# Altium integrated library TI Interface Line Transceiver.IntLib: 631 symbols (part 6 of 17)
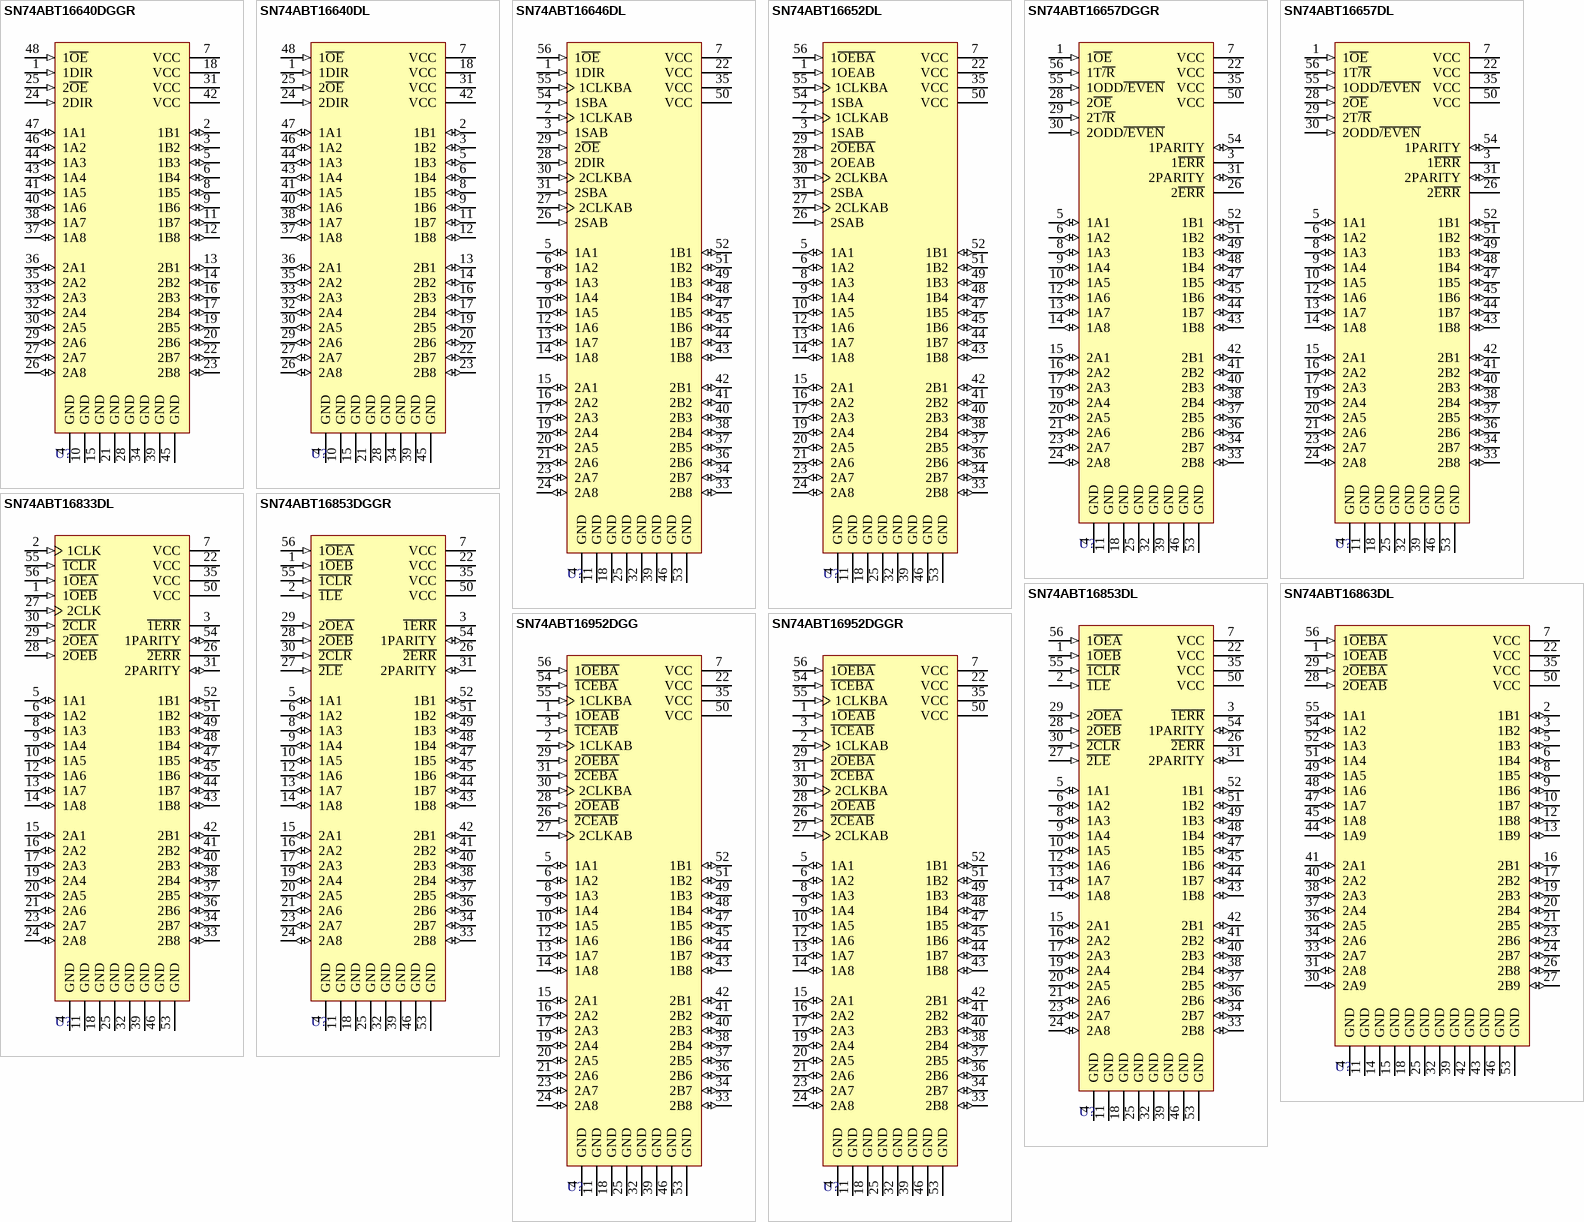
[diagram p44: symbols SN74ABT16640DGGR to SN74ABT16952DGGR]

## SN74ABT16652DL
designator U?
16-Bit Bus Transceiver and Register with 3-State Outputs; Published: 8-Jun-2000; LatestRevisionDate: 04-Mar-2005; LatestRevisionNote: Stylized 3D Model Added.; DatasheetVersion: Jan-1997; PackageVersion: Dec-2001; PackageReference: DL056; Publisher: Altium Limited; PackageDescription: SSOP; 56 Leads; Body Width 7.5 mm; Pitch 0.635 mm; Code_JEDEC: MO-118-AB; Code_IPC: SSO56; ComponentLink1Description: Manufacturer Link; ComponentLink1URL: http://www.ti.com/; ComponentLink2Description: Datasheet; ComponentLink2URL: http://www-s.ti.com/sc/ds/sn74abt16652.pdf
footprint DL056 (SSOP; 56 Leads; Body Width 7.5 mm; Pitch 0.635 mm)
3D model DL056 (SSOP; 56 Leads; Body Width 7.5 mm; Pitch 0.635 mm)
signal-integrity model SN74ABT16652DL
pins: 1 1OEAB (in), 2 1CLKAB (in), 3 1SAB (in), 4 GND (power), 5 1A1 (io), 6 1A2 (io), 7 VCC (power), 8 1A3 (io), 9 1A4 (io), 10 1A5 (io), 11 GND (power), 12 1A6 (io), 13 1A7 (io), 14 1A8 (io), 15 2A1 (io), 16 2A2 (io), 17 2A3 (io), 18 GND (power), 19 2A4 (io), 20 2A5 (io), 21 2A6 (io), 22 VCC (power), 23 2A7 (io), 24 2A8 (io), 25 GND (power), 26 2SAB (in), 27 2CLKAB (in), 28 2OEAB (in), 29 2~{OEBA} (in), 30 2CLKBA (in), 31 2SBA (in), 32 GND (power), 33 2B8 (io), 34 2B7 (io), 35 VCC (power), 36 2B6 (io), 37 2B5 (io), 38 2B4 (io), 39 GND (power), 40 2B3 (io), 41 2B2 (io), 42 2B1 (io), 43 1B8 (io), 44 1B7 (io), 45 1B6 (io), 46 GND (power), 47 1B5 (io), 48 1B4 (io), 49 1B3 (io), 50 VCC (power), 51 1B2 (io), 52 1B1 (io), 53 GND (power), 54 1SBA (in), 55 1CLKBA (in), 56 1~{OEBA} (in)

## SN74ABT16657DGGR
designator U?
16-Bit Transceiver with Parity Generators/Checkers and 3-State Outputs; Note: Pins 2 and 27 are not connected; Published: 8-Jun-2000; LatestRevisionDate: 04-Mar-2005; LatestRevisionNote: Stylized 3D Model Added.; DatasheetVersion: Jan-1997; PackageVersion: Jan-1998; PackageReference: DGG056; Publisher: Altium Limited; PackageDescription: Shrink Small Outline; 56 Leads; Body Width 6.1 mm; Pitch 0.5 mm; ComponentLink1Description: Manufacturer Link; ComponentLink1URL: http://www.ti.com/; ComponentLink2Description: Datasheet; ComponentLink2URL: http://www-s.ti.com/sc/ds/sn74abt16657.pdf
footprint DGG056 (Shrink Small Outline; 56 Leads; Body Width 6.1 mm; Pitch 0.5 mm)
3D model DGG056 (Shrink Small Outline; 56 Leads; Body Width 6.1 mm; Pitch 0.5 mm)
signal-integrity model SN74ABT16657DGGR
pins: 1 1~{OE} (in), 3 1~{ERR} (hiz), 4 GND (power), 5 1A1 (io), 6 1A2 (io), 7 VCC (power), 8 1A3 (io), 9 1A4 (io), 10 1A5 (io), 11 GND (power), 12 1A6 (io), 13 1A7 (io), 14 1A8 (io), 15 2A1 (io), 16 2A2 (io), 17 2A3 (io), 18 GND (power), 19 2A4 (io), 20 2A5 (io), 21 2A6 (io), 22 VCC (power), 23 2A7 (io), 24 2A8 (io), 25 GND (power), 26 2~{ERR} (hiz), 28 2~{OE} (in), 29 2T~{/R} (in), 30 2ODD~{/EVEN} (in), 31 2PARITY (io), 32 GND (power), 33 2B8 (io), 34 2B7 (io), 35 VCC (power), 36 2B6 (io), 37 2B5 (io), 38 2B4 (io), 39 GND (power), 40 2B3 (io), 41 2B2 (io), 42 2B1 (io), 43 1B8 (io), 44 1B7 (io), 45 1B6 (io), 46 GND (power), 47 1B5 (io), 48 1B4 (io), 49 1B3 (io), 50 VCC (power), 51 1B2 (io), 52 1B1 (io), 53 GND (power), 54 1PARITY (io), 55 1ODD~{/EVEN} (in), 56 1T~{/R} (in)

## SN74ABT16657DL
designator U?
16-Bit Transceiver with Parity Generators/Checkers and 3-State Outputs; Note: Pins 2 and 27 are not connected; Published: 8-Jun-2000; LatestRevisionDate: 04-Mar-2005; LatestRevisionNote: Stylized 3D Model Added.; DatasheetVersion: Jan-1997; PackageVersion: Dec-2001; PackageReference: DL056; Publisher: Altium Limited; PackageDescription: SSOP; 56 Leads; Body Width 7.5 mm; Pitch 0.635 mm; Code_JEDEC: MO-118-AB; Code_IPC: SSO56; ComponentLink1Description: Manufacturer Link; ComponentLink1URL: http://www.ti.com/; ComponentLink2Description: Datasheet; ComponentLink2URL: http://www-s.ti.com/sc/ds/sn74abt16657.pdf
footprint DL056 (SSOP; 56 Leads; Body Width 7.5 mm; Pitch 0.635 mm)
3D model DL056 (SSOP; 56 Leads; Body Width 7.5 mm; Pitch 0.635 mm)
signal-integrity model SN74ABT16657DL
pins: 1 1~{OE} (in), 3 1~{ERR} (hiz), 4 GND (power), 5 1A1 (io), 6 1A2 (io), 7 VCC (power), 8 1A3 (io), 9 1A4 (io), 10 1A5 (io), 11 GND (power), 12 1A6 (io), 13 1A7 (io), 14 1A8 (io), 15 2A1 (io), 16 2A2 (io), 17 2A3 (io), 18 GND (power), 19 2A4 (io), 20 2A5 (io), 21 2A6 (io), 22 VCC (power), 23 2A7 (io), 24 2A8 (io), 25 GND (power), 26 2~{ERR} (hiz), 28 2~{OE} (in), 29 2T~{/R} (in), 30 2ODD~{/EVEN} (in), 31 2PARITY (io), 32 GND (power), 33 2B8 (io), 34 2B7 (io), 35 VCC (power), 36 2B6 (io), 37 2B5 (io), 38 2B4 (io), 39 GND (power), 40 2B3 (io), 41 2B2 (io), 42 2B1 (io), 43 1B8 (io), 44 1B7 (io), 45 1B6 (io), 46 GND (power), 47 1B5 (io), 48 1B4 (io), 49 1B3 (io), 50 VCC (power), 51 1B2 (io), 52 1B1 (io), 53 GND (power), 54 1PARITY (io), 55 1ODD~{/EVEN} (in), 56 1T~{/R} (in)

## SN74ABT16833DL
designator U?
Dual 8-Bit to 9-Bit Parity Bus Transceivers; Published: 8-Jun-2000; LatestRevisionDate: 04-Mar-2005; LatestRevisionNote: Stylized 3D Model Added.; DatasheetVersion: Jan-1997; PackageVersion: Dec-2001; PackageReference: DL056; Publisher: Altium Limited; PackageDescription: SSOP; 56 Leads; Body Width 7.5 mm; Pitch 0.635 mm; Code_JEDEC: MO-118-AB; Code_IPC: SSO56; ComponentLink1Description: Manufacturer Link; ComponentLink1URL: http://www.ti.com/; ComponentLink2Description: Datasheet; ComponentLink2URL: http://www-s.ti.com/sc/ds/sn74abt16833.pdf
footprint DL056 (SSOP; 56 Leads; Body Width 7.5 mm; Pitch 0.635 mm)
3D model DL056 (SSOP; 56 Leads; Body Width 7.5 mm; Pitch 0.635 mm)
signal-integrity model SN74ABT16833DL
pins: 1 1~{OEB} (in), 2 1CLK (in), 3 ~{1ERR} (oc), 4 GND (power), 5 1A1 (io), 6 1A2 (io), 7 VCC (power), 8 1A3 (io), 9 1A4 (io), 10 1A5 (io), 11 GND (power), 12 1A6 (io), 13 1A7 (io), 14 1A8 (io), 15 2A1 (io), 16 2A2 (io), 17 2A3 (io), 18 GND (power), 19 2A4 (io), 20 2A5 (io), 21 2A6 (io), 22 VCC (power), 23 2A7 (io), 24 2A8 (io), 25 GND (power), 26 ~{2ERR} (oc), 27 2CLK (in), 28 2~{OEB} (in), 29 2~{OEA} (in), 30 ~{2CLR} (in), 31 2PARITY (io), 32 GND (power), 33 2B8 (io), 34 2B7 (io), 35 VCC (power), 36 2B6 (io), 37 2B5 (io), 38 2B4 (io), 39 GND (power), 40 2B3 (io), 41 2B2 (io), 42 2B1 (io), 43 1B8 (io), 44 1B7 (io), 45 1B6 (io), 46 GND (power), 47 1B5 (io), 48 1B4 (io), 49 1B3 (io), 50 VCC (power), 51 1B2 (io), 52 1B1 (io), 53 GND (power), 54 1PARITY (io), 55 ~{1CLR} (in), 56 1~{OEA} (in)

## SN74ABT16853DGGR
designator U?
Dual 8-Bit to 9-Bit Parity Bus Transceivers; Published: 8-Jun-2000; LatestRevisionDate: 04-Mar-2005; LatestRevisionNote: Stylized 3D Model Added.; DatasheetVersion: Jan-1997; PackageVersion: Jan-1998; PackageReference: DGG056; Publisher: Altium Limited; PackageDescription: Shrink Small Outline; 56 Leads; Body Width 6.1 mm; Pitch 0.5 mm; ComponentLink1Description: Manufacturer Link; ComponentLink1URL: http://www.ti.com/; ComponentLink2Description: Datasheet; ComponentLink2URL: http://www-s.ti.com/sc/ds/sn74abt16853.pdf
footprint DGG056 (Shrink Small Outline; 56 Leads; Body Width 6.1 mm; Pitch 0.5 mm)
3D model DGG056 (Shrink Small Outline; 56 Leads; Body Width 6.1 mm; Pitch 0.5 mm)
signal-integrity model SN74ABT16853DGGR
pins: 1 1~{OEB} (in), 2 ~{1LE} (in), 3 ~{1ERR} (oc), 4 GND (power), 5 1A1 (io), 6 1A2 (io), 7 VCC (power), 8 1A3 (io), 9 1A4 (io), 10 1A5 (io), 11 GND (power), 12 1A6 (io), 13 1A7 (io), 14 1A8 (io), 15 2A1 (io), 16 2A2 (io), 17 2A3 (io), 18 GND (power), 19 2A4 (io), 20 2A5 (io), 21 2A6 (io), 22 VCC (power), 23 2A7 (io), 24 2A8 (io), 25 GND (power), 26 ~{2ERR} (oc), 27 ~{2LE} (in), 28 2~{OEB} (in), 29 2~{OEA} (in), 30 ~{2CLR} (in), 31 2PARITY (io), 32 GND (power), 33 2B8 (io), 34 2B7 (io), 35 VCC (power), 36 2B6 (io), 37 2B5 (io), 38 2B4 (io), 39 GND (power), 40 2B3 (io), 41 2B2 (io), 42 2B1 (io), 43 1B8 (io), 44 1B7 (io), 45 1B6 (io), 46 GND (power), 47 1B5 (io), 48 1B4 (io), 49 1B3 (io), 50 VCC (power), 51 1B2 (io), 52 1B1 (io), 53 GND (power), 54 1PARITY (io), 55 ~{1CLR} (in), 56 1~{OEA} (in)

## SN74ABT16853DL
designator U?
Dual 8-Bit to 9-Bit Parity Bus Transceivers; Published: 8-Jun-2000; LatestRevisionDate: 04-Mar-2005; LatestRevisionNote: Stylized 3D Model Added.; DatasheetVersion: Jan-1997; PackageVersion: Dec-2001; PackageReference: DL056; Publisher: Altium Limited; PackageDescription: SSOP; 56 Leads; Body Width 7.5 mm; Pitch 0.635 mm; Code_JEDEC: MO-118-AB; Code_IPC: SSO56; ComponentLink1Description: Manufacturer Link; ComponentLink1URL: http://www.ti.com/; ComponentLink2Description: Datasheet; ComponentLink2URL: http://www-s.ti.com/sc/ds/sn74abt16853.pdf
footprint DL056 (SSOP; 56 Leads; Body Width 7.5 mm; Pitch 0.635 mm)
3D model DL056 (SSOP; 56 Leads; Body Width 7.5 mm; Pitch 0.635 mm)
signal-integrity model SN74ABT16853DL
pins: 1 1~{OEB} (in), 2 ~{1LE} (in), 3 ~{1ERR} (oc), 4 GND (power), 5 1A1 (io), 6 1A2 (io), 7 VCC (power), 8 1A3 (io), 9 1A4 (io), 10 1A5 (io), 11 GND (power), 12 1A6 (io), 13 1A7 (io), 14 1A8 (io), 15 2A1 (io), 16 2A2 (io), 17 2A3 (io), 18 GND (power), 19 2A4 (io), 20 2A5 (io), 21 2A6 (io), 22 VCC (power), 23 2A7 (io), 24 2A8 (io), 25 GND (power), 26 ~{2ERR} (oc), 27 ~{2LE} (in), 28 2~{OEB} (in), 29 2~{OEA} (in), 30 ~{2CLR} (in), 31 2PARITY (io), 32 GND (power), 33 2B8 (io), 34 2B7 (io), 35 VCC (power), 36 2B6 (io), 37 2B5 (io), 38 2B4 (io), 39 GND (power), 40 2B3 (io), 41 2B2 (io), 42 2B1 (io), 43 1B8 (io), 44 1B7 (io), 45 1B6 (io), 46 GND (power), 47 1B5 (io), 48 1B4 (io), 49 1B3 (io), 50 VCC (power), 51 1B2 (io), 52 1B1 (io), 53 GND (power), 54 1PARITY (io), 55 ~{1CLR} (in), 56 1~{OEA} (in)

## SN74ABT16863DL
designator U?
18-Bit Bus Transceiver with 3-State Outputs; Published: 8-Jun-2000; LatestRevisionDate: 04-Mar-2005; LatestRevisionNote: Stylized 3D Model Added.; DatasheetVersion: May-1997; PackageVersion: Dec-2001; PackageReference: DL056; Publisher: Altium Limited; PackageDescription: SSOP; 56 Leads; Body Width 7.5 mm; Pitch 0.635 mm; Code_JEDEC: MO-118-AB; Code_IPC: SSO56; ComponentLink1Description: Manufacturer Link; ComponentLink1URL: http://www.ti.com/; ComponentLink2Description: Datasheet; ComponentLink2URL: http://www-s.ti.com/sc/ds/sn74abt16863.pdf; ComponentLink3Description: URL Link1; ComponentLink3URL: http://focus.ti.com/docs/prod/folders/print/sn74abt16863.html
footprint DL056 (SSOP; 56 Leads; Body Width 7.5 mm; Pitch 0.635 mm)
3D model DL056 (SSOP; 56 Leads; Body Width 7.5 mm; Pitch 0.635 mm)
signal-integrity model SN74ABT16863DL
pins: 1 1~{OEAB} (in), 2 1B1 (io), 3 1B2 (io), 4 GND (power), 5 1B3 (io), 6 1B4 (io), 7 VCC (power), 8 1B5 (io), 9 1B6 (io), 10 1B7 (io), 11 GND (power), 12 1B8 (io), 13 1B9 (io), 14 GND (power), 15 GND (power), 16 2B1 (io), 17 2B2 (io), 18 GND (power), 19 2B3 (io), 20 2B4 (io), 21 2B5 (io), 22 VCC (power), 23 2B6 (io), 24 2B7 (io), 25 GND (power), 26 2B8 (io), 27 2B9 (io), 28 2~{OEAB} (in), 29 2~{OEBA} (in), 30 2A9 (io), 31 2A8 (io), 32 GND (power), 33 2A7 (io), 34 2A6 (io), 35 VCC (power), 36 2A5 (io), 37 2A4 (io), 38 2A3 (io), 39 GND (power), 40 2A2 (io), 41 2A1 (io), 42 GND (power), 43 GND (power), 44 1A9 (io), 45 1A8 (io), 46 GND (power), 47 1A7 (io), 48 1A6 (io), 49 1A5 (io), 50 VCC (power), 51 1A4 (io), 52 1A3 (io), 53 GND (power), 54 1A2 (io), 55 1A1 (io), 56 1~{OEBA} (in)

## SN74ABT16952DGG
designator U?
16-Bit Registered Transceiver with 3-State Outputs; Published: 8-Jun-2000; LatestRevisionDate: 04-Mar-2005; LatestRevisionNote: Stylized 3D Model Added.; DatasheetVersion: Jan-1997; PackageVersion: Jan-1998; PackageReference: DGG056; Publisher: Altium Limited; PackageDescription: Shrink Small Outline; 56 Leads; Body Width 6.1 mm; Pitch 0.5 mm; ComponentLink1Description: Manufacturer Link; ComponentLink1URL: http://www.ti.com/; ComponentLink2Description: Datasheet; ComponentLink2URL: http://www-s.ti.com/sc/ds/sn74abt16952.pdf
footprint DGG056 (Shrink Small Outline; 56 Leads; Body Width 6.1 mm; Pitch 0.5 mm)
3D model DGG056 (Shrink Small Outline; 56 Leads; Body Width 6.1 mm; Pitch 0.5 mm)
signal-integrity model SN74ABT16952DGG
pins: 1 1~{OEAB} (in), 2 1CLKAB (in), 3 ~{1CEAB} (in), 4 GND (power), 5 1A1 (io), 6 1A2 (io), 7 VCC (power), 8 1A3 (io), 9 1A4 (io), 10 1A5 (io), 11 GND (power), 12 1A6 (io), 13 1A7 (io), 14 1A8 (io), 15 2A1 (io), 16 2A2 (io), 17 2A3 (io), 18 GND (power), 19 2A4 (io), 20 2A5 (io), 21 2A6 (io), 22 VCC (power), 23 2A7 (io), 24 2A8 (io), 25 GND (power), 26 ~{2CEAB} (in), 27 2CLKAB (in), 28 2~{OEAB} (in), 29 2~{OEBA} (in), 30 2CLKBA (in), 31 ~{2CEBA} (in), 32 GND (power), 33 2B8 (io), 34 2B7 (io), 35 VCC (power), 36 2B6 (io), 37 2B5 (io), 38 2B4 (io), 39 GND (power), 40 2B3 (io), 41 2B2 (io), 42 2B1 (io), 43 1B8 (io), 44 1B7 (io), 45 1B6 (io), 46 GND (power), 47 1B5 (io), 48 1B4 (io), 49 1B3 (io), 50 VCC (power), 51 1B2 (io), 52 1B1 (io), 53 GND (power), 54 ~{1CEBA} (in), 55 1CLKBA (in), 56 1~{OEBA} (in)

## SN74ABT16952DGGR
designator U?
16-Bit Registered Transceiver with 3-State Outputs; Published: 8-Jun-2000; LatestRevisionDate: 04-Mar-2005; LatestRevisionNote: Stylized 3D Model Added.; DatasheetVersion: Jan-1997; PackageVersion: Jan-1998; PackageReference: DGG056; Publisher: Altium Limited; PackageDescription: Shrink Small Outline; 56 Leads; Body Width 6.1 mm; Pitch 0.5 mm; ComponentLink1Description: Manufacturer Link; ComponentLink1URL: http://www.ti.com/; ComponentLink2Description: Datasheet; ComponentLink2URL: http://www-s.ti.com/sc/ds/sn74abt16952.pdf
footprint DGG056 (Shrink Small Outline; 56 Leads; Body Width 6.1 mm; Pitch 0.5 mm)
3D model DGG056 (Shrink Small Outline; 56 Leads; Body Width 6.1 mm; Pitch 0.5 mm)
signal-integrity model SN74ABT16952DGGR
pins: 1 1~{OEAB} (in), 2 1CLKAB (in), 3 ~{1CEAB} (in), 4 GND (power), 5 1A1 (io), 6 1A2 (io), 7 VCC (power), 8 1A3 (io), 9 1A4 (io), 10 1A5 (io), 11 GND (power), 12 1A6 (io), 13 1A7 (io), 14 1A8 (io), 15 2A1 (io), 16 2A2 (io), 17 2A3 (io), 18 GND (power), 19 2A4 (io), 20 2A5 (io), 21 2A6 (io), 22 VCC (power), 23 2A7 (io), 24 2A8 (io), 25 GND (power), 26 ~{2CEAB} (in), 27 2CLKAB (in), 28 2~{OEAB} (in), 29 2~{OEBA} (in), 30 2CLKBA (in), 31 ~{2CEBA} (in), 32 GND (power), 33 2B8 (io), 34 2B7 (io), 35 VCC (power), 36 2B6 (io), 37 2B5 (io), 38 2B4 (io), 39 GND (power), 40 2B3 (io), 41 2B2 (io), 42 2B1 (io), 43 1B8 (io), 44 1B7 (io), 45 1B6 (io), 46 GND (power), 47 1B5 (io), 48 1B4 (io), 49 1B3 (io), 50 VCC (power), 51 1B2 (io), 52 1B1 (io), 53 GND (power), 54 ~{1CEBA} (in), 55 1CLKBA (in), 56 1~{OEBA} (in)

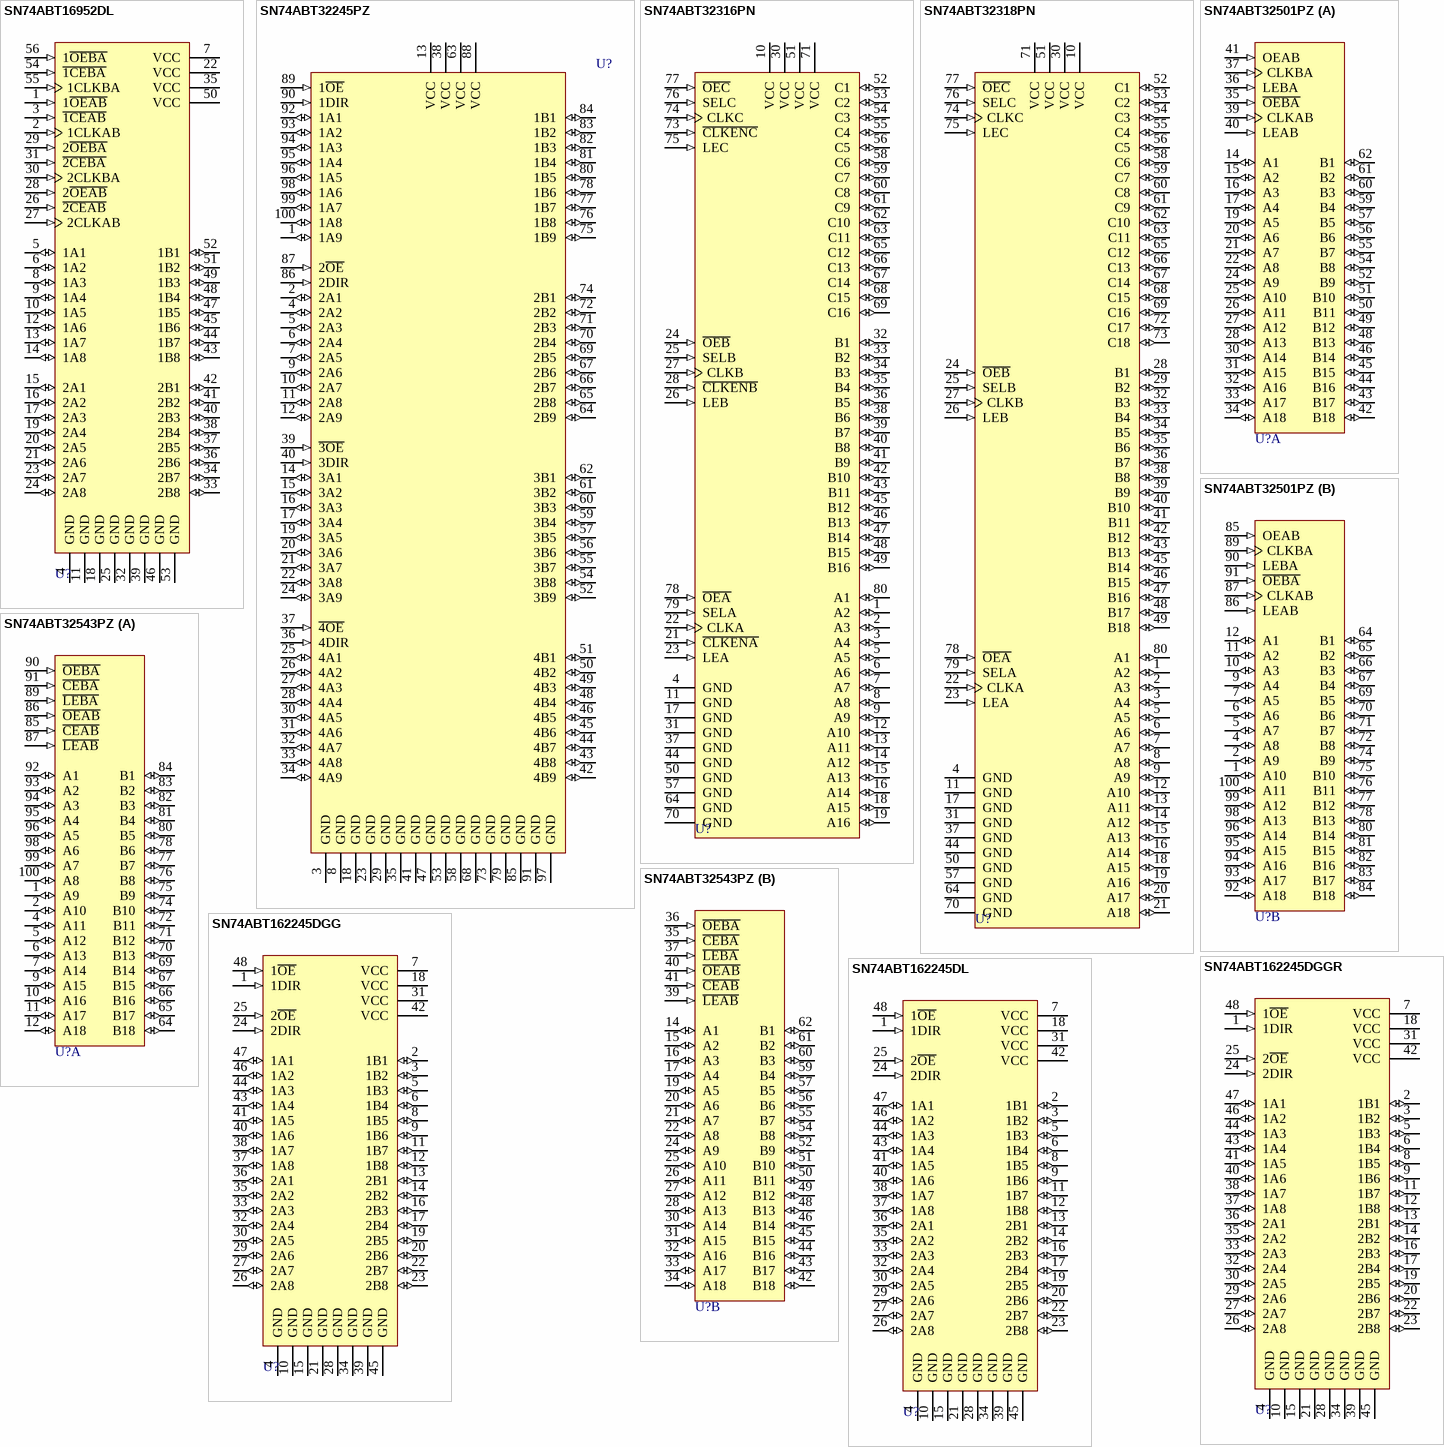
[diagram p12: symbols SN74ABT16952DL to SN74ABT162245DL]

## SN74ABT16952DL
designator U?
16-Bit Registered Transceiver with 3-State Outputs; Published: 8-Jun-2000; LatestRevisionDate: 04-Mar-2005; LatestRevisionNote: Stylized 3D Model Added.; DatasheetVersion: Jan-1997; PackageVersion: Dec-2001; PackageReference: DL056; Publisher: Altium Limited; PackageDescription: SSOP; 56 Leads; Body Width 7.5 mm; Pitch 0.635 mm; Code_JEDEC: MO-118-AB; Code_IPC: SSO56; ComponentLink1Description: Manufacturer Link; ComponentLink1URL: http://www.ti.com/; ComponentLink2Description: Datasheet; ComponentLink2URL: http://www-s.ti.com/sc/ds/sn74abt16952.pdf
footprint DL056 (SSOP; 56 Leads; Body Width 7.5 mm; Pitch 0.635 mm)
3D model DL056 (SSOP; 56 Leads; Body Width 7.5 mm; Pitch 0.635 mm)
signal-integrity model SN74ABT16952DL
pins: 1 1~{OEAB} (in), 2 1CLKAB (in), 3 ~{1CEAB} (in), 4 GND (power), 5 1A1 (io), 6 1A2 (io), 7 VCC (power), 8 1A3 (io), 9 1A4 (io), 10 1A5 (io), 11 GND (power), 12 1A6 (io), 13 1A7 (io), 14 1A8 (io), 15 2A1 (io), 16 2A2 (io), 17 2A3 (io), 18 GND (power), 19 2A4 (io), 20 2A5 (io), 21 2A6 (io), 22 VCC (power), 23 2A7 (io), 24 2A8 (io), 25 GND (power), 26 ~{2CEAB} (in), 27 2CLKAB (in), 28 2~{OEAB} (in), 29 2~{OEBA} (in), 30 2CLKBA (in), 31 ~{2CEBA} (in), 32 GND (power), 33 2B8 (io), 34 2B7 (io), 35 VCC (power), 36 2B6 (io), 37 2B5 (io), 38 2B4 (io), 39 GND (power), 40 2B3 (io), 41 2B2 (io), 42 2B1 (io), 43 1B8 (io), 44 1B7 (io), 45 1B6 (io), 46 GND (power), 47 1B5 (io), 48 1B4 (io), 49 1B3 (io), 50 VCC (power), 51 1B2 (io), 52 1B1 (io), 53 GND (power), 54 ~{1CEBA} (in), 55 1CLKBA (in), 56 1~{OEBA} (in)

## SN74ABT32245PZ
designator U?
36-Bit Bus Transceiver with 3-State Outputs; ComponentAvailability: Obsolete; Published: 8-Jun-2000; LatestRevisionDate: 13-Apr-2006; LatestRevisionNote: IPC-7351 Footprint Added.; DatasheetVersion: Apr-1995; PackageVersion: Dec-1996; PackageReference: PZ100; Publisher: Altium Limited; PackageDescription: 100-Pin Thin Quad Flat Pack 0.5 mm Pitch; ComponentLink1Description: Manufacturer Link; ComponentLink1URL: http://www.ti.com/; ComponentLink2Description: Datasheet; ComponentLink2URL: http://www-s.ti.com/sc/ds/sn74abt32245.pdf; ComponentLink3Description: Discontinuation Notice; ComponentLink3URL: http://focus.ti.com/docs/prod/folders/print/sn74abt32245.html
footprint PZ100_N (Thin QFP, 100-Leads, Body 14x14mm, Pitch 0.5mm, IPC Medium Density)
footprint PZ100_L (Thin QFP, 100-Leads, Body 14x14mm, Pitch 0.5mm, IPC High Density)
footprint PZ100_M (Thin QFP, 100-Leads, Body 14x14mm, Pitch 0.5mm, IPC Low Density)
3D model SN74ABT32245-PZ100 (100-Pin Thin Quad Flat Pack 0.5 mm Pitch)
signal-integrity model SN74ABT32245PZ
pins: 1 1A9 (io), 2 2A1 (io), 3 GND (power), 4 2A2 (io), 5 2A3 (io), 6 2A4 (io), 7 2A5 (io), 8 GND (power), 9 2A6 (io), 10 2A7 (io), 11 2A8 (io), 12 2A9 (io), 13 VCC (power), 14 3A1 (io), 15 3A2 (io), 16 3A3 (io), 17 3A4 (io), 18 GND (power), 19 3A5 (io), 20 3A6 (io), 21 3A7 (io), 22 3A8 (io), 23 GND (power), 24 3A9 (io), 25 4A1 (io), 26 4A2 (io), 27 4A3 (io), 28 4A4 (io), 29 GND (power), 30 4A5 (io), 31 4A6 (io), 32 4A7 (io), 33 4A8 (io), 34 4A9 (io), 35 GND (power), 36 4DIR (in), 37 ~{4OE} (in), 38 VCC (power), 39 ~{3OE} (in), 40 3DIR (in), 41 GND (power), 42 4B9 (io), 43 4B8 (io), 44 4B7 (io), 45 4B6 (io), 46 4B5 (io), 47 GND (power), 48 4B4 (io), 49 4B3 (io), 50 4B2 (io), 51 4B1 (io), 52 3B9 (io), 53 GND (power), 54 3B8 (io), 55 3B7 (io), 56 3B6 (io), 57 3B5 (io), 58 GND (power), 59 3B4 (io), 60 3B3 (io), 61 3B2 (io), 62 3B1 (io), 63 VCC (power), 64 2B9 (io), 65 2B8 (io), 66 2B7 (io), 67 2B6 (io), 68 GND (power), 69 2B5 (io), 70 2B4 (io), 71 2B3 (io), 72 2B2 (io), 73 GND (power), 74 2B1 (io), 75 1B9 (io), 76 1B8 (io), 77 1B7 (io), 78 1B6 (io), 79 GND (power), 80 1B5 (io), 81 1B4 (io), 82 1B3 (io), 83 1B2 (io), 84 1B1 (io), 85 GND (power), 86 2DIR (in), 87 2~{OE} (in), 88 VCC (power), 89 1~{OE} (in), 90 1DIR (in), 91 GND (power), 92 1A1 (io), 93 1A2 (io), 94 1A3 (io), 95 1A4 (io), 96 1A5 (io), 97 GND (power), 98 1A6 (io), 99 1A7 (io), 100 1A8 (io)

## SN74ABT32316PN
designator U?
16-Bit Tri-Port Universal Bus Exchanger; Note: Pins 20, 29 & 72 are not connected; ComponentAvailability: Obsolete; Published: 8-Jun-2000; LatestRevisionDate: 13-Apr-2006; LatestRevisionNote: IPC-7351 Footprint Added.; DatasheetVersion: Jul-1994; PackageVersion: Dec-1996; PackageReference: PN080; Publisher: Altium Limited; PackageDescription: 80-Pin Thin Quad Flat Pack 0.5 mm Pitch; ComponentLink1Description: Manufacturer Link; ComponentLink1URL: http://www.ti.com/; ComponentLink2Description: Datasheet; ComponentLink2URL: http://www-s.ti.com/sc/ds/sn74abt32316.pdf
footprint PN080_N (Thin QFP, 80-Leads, Body 12x12mm, Pitch 0.5mm, IPC Medium Density)
footprint PN080_L (Thin QFP, 80-Leads, Body 12x12mm, Pitch 0.5mm, IPC High Density)
footprint PN080_M (Thin QFP, 80-Leads, Body 12x12mm, Pitch 0.5mm, IPC Low Density)
3D model SN74ABT32316-PN080 (80-Pin Thin Quad Flat Pack 0.5 mm Pitch)
signal-integrity model SN74ABT32316PN
pins: 1 A2 (io), 2 A3 (io), 3 A4 (io), 4 GND (power), 5 A5 (io), 6 A6 (io), 7 A7 (io), 8 A8 (io), 9 A9 (io), 10 VCC (power), 11 GND (power), 12 A10 (io), 13 A11 (io), 14 A12 (io), 15 A13 (io), 16 A14 (io), 17 GND (power), 18 A15 (io), 19 A16 (io), 21 ~{CLKENA} (in), 22 CLKA (in), 23 LEA (in), 24 ~{OEB} (in), 25 SELB (in), 26 LEB (in), 27 CLKB (in), 28 ~{CLKENB} (in), 30 VCC (power), 31 GND (power), 32 B1 (io), 33 B2 (io), 34 B3 (io), 35 B4 (io), 36 B5 (io), 37 GND (power), 38 B6 (io), 39 B7 (io), 40 B8 (io), 41 B9 (io), 42 B10 (io), 43 B11 (io), 44 GND (power), 45 B12 (io), 46 B13 (io), 47 B14 (io), 48 B15 (io), 49 B16 (io), 50 GND (power), 51 VCC (power), 52 C1 (io), 53 C2 (io), 54 C3 (io), 55 C4 (io), 56 C5 (io), 57 GND (power), 58 C6 (io), 59 C7 (io), 60 C8 (io), 61 C9 (io), 62 C10 (io), 63 C11 (io), 64 GND (power), 65 C12 (io), 66 C13 (io), 67 C14 (io), 68 C15 (io), 69 C16 (io), 70 GND (power), 71 VCC (power), 73 ~{CLKENC} (in), 74 CLKC (in), 75 LEC (in), 76 SELC (in), 77 ~{OEC} (in), 78 ~{OEA} (in), 79 SELA (in), 80 A1 (io)

## SN74ABT32318PN
designator U?
18-Bit Tri-Port Universal Bus Exchanger; ComponentAvailability: Obsolete; Published: 8-Jun-2000; LatestRevisionDate: 13-Apr-2006; LatestRevisionNote: IPC-7351 Footprint Added.; DatasheetVersion: Jul-1994; PackageVersion: Dec-1996; PackageReference: PN080; Publisher: Altium Limited; PackageDescription: 80-Pin Thin Quad Flat Pack 0.5 mm Pitch; ComponentLink1Description: Manufacturer Link; ComponentLink1URL: http://www.ti.com/; ComponentLink2Description: Datasheet; ComponentLink2URL: http://www-s.ti.com/sc/ds/sn74abt32318.pdf; ComponentLink3Description: Discontinuation Notice; ComponentLink3URL: http://focus.ti.com/docs/prod/folders/print/sn74abt32318.html
footprint PN080_N (Thin QFP, 80-Leads, Body 12x12mm, Pitch 0.5mm, IPC Medium Density)
footprint PN080_L (Thin QFP, 80-Leads, Body 12x12mm, Pitch 0.5mm, IPC High Density)
footprint PN080_M (Thin QFP, 80-Leads, Body 12x12mm, Pitch 0.5mm, IPC Low Density)
3D model SN74ABT32318-PN080 (80-Pin Thin Quad Flat Pack 0.5 mm Pitch)
signal-integrity model SN74ABT32318PN
pins: 1 A2 (io), 2 A3 (io), 3 A4 (io), 4 GND (power), 5 A5 (io), 6 A6 (io), 7 A7 (io), 8 A8 (io), 9 A9 (io), 10 VCC (power), 11 GND (power), 12 A10 (io), 13 A11 (io), 14 A12 (io), 15 A13 (io), 16 A14 (io), 17 GND (power), 18 A15 (io), 19 A16 (io), 20 A17 (io), 21 A18 (io), 22 CLKA (in), 23 LEA (in), 24 ~{OEB} (in), 25 SELB (in), 26 LEB (in), 27 CLKB (in), 28 B1 (io), 29 B2 (io), 30 VCC (power), 31 GND (power), 32 B3 (io), 33 B4 (io), 34 B5 (io), 35 B6 (io), 36 B7 (io), 37 GND (power), 38 B8 (io), 39 B9 (io), 40 B10 (io), 41 B11 (io), 42 B12 (io), 43 B13 (io), 44 GND (power), 45 B14 (io), 46 B15 (io), 47 B16 (io), 48 B17 (io), 49 B18 (io), 50 GND (power), 51 VCC (power), 52 C1 (io), 53 C2 (io), 54 C3 (io), 55 C4 (io), 56 C5 (io), 57 GND (power), 58 C6 (io), 59 C7 (io), 60 C8 (io), 61 C9 (io), 62 C10 (io), 63 C11 (io), 64 GND (power), 65 C12 (io), 66 C13 (io), 67 C14 (io), 68 C15 (io), 69 C16 (io), 70 GND (power), 71 VCC (power), 72 C17 (io), 73 C18 (io), 74 CLKC (in), 75 LEC (in), 76 SELC (in), 77 ~{OEC} (in), 78 ~{OEA} (in), 79 SELA (in), 80 A1 (io)

## SN74ABT32501PZ
designator U?
36-Bit Universal Bus Transceiver with 3-State Outputs; ComponentAvailability: Obsolete; Published: 8-Jun-2000; LatestRevisionDate: 13-Apr-2006; LatestRevisionNote: IPC-7351 Footprint Added.; DatasheetVersion: Nov-1994; PackageVersion: Dec-1996; PackageReference: PZ100; Publisher: Altium Limited; PackageDescription: 100-Pin Thin Quad Flat Pack 0.5 mm Pitch; ComponentLink1Description: Manufacturer Link; ComponentLink1URL: http://www.ti.com/; ComponentLink2Description: Datasheet; ComponentLink2URL: http://www-s.ti.com/sc/ds/sn74abt32501.pdf; ComponentLink3Description: Discontinuation Notice; ComponentLink3URL: http://focus.ti.com/docs/prod/folders/print/sn74abt32501.html
footprint PZ100_N (Thin QFP, 100-Leads, Body 14x14mm, Pitch 0.5mm, IPC Medium Density)
footprint PZ100_L (Thin QFP, 100-Leads, Body 14x14mm, Pitch 0.5mm, IPC High Density)
footprint PZ100_M (Thin QFP, 100-Leads, Body 14x14mm, Pitch 0.5mm, IPC Low Density)
3D model SN74ABT32501-PZ100 (100-Pin Thin Quad Flat Pack 0.5 mm Pitch)
signal-integrity model SN74ABT32501PZ
pins on every part: 3 GND (power) hidden to GND, 8 GND (power) hidden to GND, 13 VCC (power) hidden to VCC, 18 GND (power) hidden to GND, 23 GND (power) hidden to GND, 29 GND (power) hidden to GND, 38 VCC (power) hidden to VCC, 47 GND (power) hidden to GND, 53 GND (power) hidden to GND, 58 GND (power) hidden to GND, 63 VCC (power) hidden to VCC, 68 GND (power) hidden to GND, 73 GND (power) hidden to GND, 79 GND (power) hidden to GND, 88 VCC (power) hidden to VCC, 97 GND (power) hidden to GND
part A pins: 14 A1 (io), 15 A2 (io), 16 A3 (io), 17 A4 (io), 19 A5 (io), 20 A6 (io), 21 A7 (io), 22 A8 (io), 24 A9 (io), 25 A10 (io), 26 A11 (io), 27 A12 (io), 28 A13 (io), 30 A14 (io), 31 A15 (io), 32 A16 (io), 33 A17 (io), 34 A18 (io), 35 ~{OEBA} (in), 36 LEBA (in), 37 CLKBA (in), 39 CLKAB (in), 40 LEAB (in), 41 OEAB (in), 42 B18 (io), 43 B17 (io), 44 B16 (io), 45 B15 (io), 46 B14 (io), 48 B13 (io), 49 B12 (io), 50 B11 (io), 51 B10 (io), 52 B9 (io), 54 B8 (io), 55 B7 (io), 56 B6 (io), 57 B5 (io), 59 B4 (io), 60 B3 (io), 61 B2 (io), 62 B1 (io)
part B pins: 1 A10 (io), 2 A9 (io), 4 A8 (io), 5 A7 (io), 6 A6 (io), 7 A5 (io), 9 A4 (io), 10 A3 (io), 11 A2 (io), 12 A1 (io), 64 B1 (io), 65 B2 (io), 66 B3 (io), 67 B4 (io), 69 B5 (io), 70 B6 (io), 71 B7 (io), 72 B8 (io), 74 B9 (io), 75 B10 (io), 76 B11 (io), 77 B12 (io), 78 B13 (io), 80 B14 (io), 81 B15 (io), 82 B16 (io), 83 B17 (io), 84 B18 (io), 85 OEAB (in), 86 LEAB (in), 87 CLKAB (in), 89 CLKBA (in), 90 LEBA (in), 91 ~{OEBA} (in), 92 A18 (io), 93 A17 (io), 94 A16 (io), 95 A15 (io), 96 A14 (io), 98 A13 (io), 99 A12 (io), 100 A11 (io)

## SN74ABT32543PZ
designator U?
36-Bit Registered Bus Transceiver with 3-State Outputs; ComponentAvailability: Obsolete; Published: 8-Jun-2000; LatestRevisionDate: 13-Apr-2006; LatestRevisionNote: IPC-7351 Footprint Added.; DatasheetVersion: Jul-1994; PackageVersion: Dec-1996; PackageReference: PZ100; Publisher: Altium Limited; PackageDescription: 100-Pin Thin Quad Flat Pack 0.5 mm Pitch; ComponentLink1Description: Manufacturer Link; ComponentLink1URL: http://www.ti.com/; ComponentLink2Description: Datasheet; ComponentLink2URL: http://www-s.ti.com/sc/ds/sn74abt32543.pdf; ComponentLink3Description: Discontinuation Notice; ComponentLink3URL: http://focus.ti.com/docs/prod/folders/print/sn74abt32543.html
footprint PZ100_N (Thin QFP, 100-Leads, Body 14x14mm, Pitch 0.5mm, IPC Medium Density)
footprint PZ100_L (Thin QFP, 100-Leads, Body 14x14mm, Pitch 0.5mm, IPC High Density)
footprint PZ100_M (Thin QFP, 100-Leads, Body 14x14mm, Pitch 0.5mm, IPC Low Density)
3D model SN74ABT32543-PZ100 (100-Pin Thin Quad Flat Pack 0.5 mm Pitch)
signal-integrity model SN74ABT32543PZ
pins on every part: 3 GND (power) hidden to GND, 8 GND (power) hidden to GND, 13 VCC (power) hidden to VCC, 18 GND (power) hidden to GND, 23 GND (power) hidden to GND, 29 GND (power) hidden to GND, 38 VCC (power) hidden to VCC, 47 GND (power) hidden to GND, 53 GND (power) hidden to GND, 58 GND (power) hidden to GND, 63 VCC (power) hidden to VCC, 68 GND (power) hidden to GND, 73 GND (power) hidden to GND, 79 GND (power) hidden to GND, 88 VCC (power) hidden to VCC, 97 GND (power) hidden to GND
part A pins: 1 A9 (io), 2 A10 (io), 4 A11 (io), 5 A12 (io), 6 A13 (io), 7 A14 (io), 9 A15 (io), 10 A16 (io), 11 A17 (io), 12 A18 (io), 64 B18 (io), 65 B17 (io), 66 B16 (io), 67 B15 (io), 69 B14 (io), 70 B13 (io), 71 B12 (io), 72 B11 (io), 74 B10 (io), 75 B9 (io), 76 B8 (io), 77 B7 (io), 78 B6 (io), 80 B5 (io), 81 B4 (io), 82 B3 (io), 83 B2 (io), 84 B1 (io), 85 ~{CEAB} (in), 86 ~{OEAB} (in), 87 ~{LEAB} (in), 89 ~{LEBA} (in), 90 ~{OEBA} (in), 91 ~{CEBA} (in), 92 A1 (io), 93 A2 (io), 94 A3 (io), 95 A4 (io), 96 A5 (io), 98 A6 (io), 99 A7 (io), 100 A8 (io)
part B pins: 14 A1 (io), 15 A2 (io), 16 A3 (io), 17 A4 (io), 19 A5 (io), 20 A6 (io), 21 A7 (io), 22 A8 (io), 24 A9 (io), 25 A10 (io), 26 A11 (io), 27 A12 (io), 28 A13 (io), 30 A14 (io), 31 A15 (io), 32 A16 (io), 33 A17 (io), 34 A18 (io), 35 ~{CEBA} (in), 36 ~{OEBA} (in), 37 ~{LEBA} (in), 39 ~{LEAB} (in), 40 ~{OEAB} (in), 41 ~{CEAB} (in), 42 B18 (io), 43 B17 (io), 44 B16 (io), 45 B15 (io), 46 B14 (io), 48 B13 (io), 49 B12 (io), 50 B11 (io), 51 B10 (io), 52 B9 (io), 54 B8 (io), 55 B7 (io), 56 B6 (io), 57 B5 (io), 59 B4 (io), 60 B3 (io), 61 B2 (io), 62 B1 (io)

## SN74ABT162245DGG
designator U?
16-Bit Bus Transceiver with 3-State Outputs; Published: 8-Jun-2000; LatestRevisionDate: 04-Mar-2005; LatestRevisionNote: Stylized 3D Model Added.; DatasheetVersion: Apr-1999; PackageVersion: Jan-1998; PackageReference: DGG048; Publisher: Altium Limited; PackageDescription: Shrink Small Outline; 48 Leads; Body Width 6.1 mm; Pitch 0.5 mm; ComponentLink1Description: Manufacturer Link; ComponentLink1URL: http://www.ti.com/; ComponentLink2Description: Datasheet; ComponentLink2URL: http://www-s.ti.com/sc/ds/sn74abt162245.pdf
footprint DGG048 (Shrink Small Outline; 48 Leads; Body Width 6.1 mm; Pitch 0.5 mm)
3D model DGG048 (Shrink Small Outline; 48 Leads; Body Width 6.1 mm; Pitch 0.5 mm)
signal-integrity model SN74ABT162245DGG
pins: 1 1DIR (in), 2 1B1 (io), 3 1B2 (io), 4 GND (power), 5 1B3 (io), 6 1B4 (io), 7 VCC (power), 8 1B5 (io), 9 1B6 (io), 10 GND (power), 11 1B7 (io), 12 1B8 (io), 13 2B1 (io), 14 2B2 (io), 15 GND (power), 16 2B3 (io), 17 2B4 (io), 18 VCC (power), 19 2B5 (io), 20 2B6 (io), 21 GND (power), 22 2B7 (io), 23 2B8 (io), 24 2DIR (in), 25 2~{OE} (in), 26 2A8 (io), 27 2A7 (io), 28 GND (power), 29 2A6 (io), 30 2A5 (io), 31 VCC (power), 32 2A4 (io), 33 2A3 (io), 34 GND (power), 35 2A2 (io), 36 2A1 (io), 37 1A8 (io), 38 1A7 (io), 39 GND (power), 40 1A6 (io), 41 1A5 (io), 42 VCC (power), 43 1A4 (io), 44 1A3 (io), 45 GND (power), 46 1A2 (io), 47 1A1 (io), 48 1~{OE} (in)

## SN74ABT162245DGGR
designator U?
16-Bit Bus Transceiver with 3-State Outputs; Published: 8-Jun-2000; LatestRevisionDate: 04-Mar-2005; LatestRevisionNote: Stylized 3D Model Added.; DatasheetVersion: Apr-1999; PackageVersion: Jan-1998; PackageReference: DGG048; Publisher: Altium Limited; PackageDescription: Shrink Small Outline; 48 Leads; Body Width 6.1 mm; Pitch 0.5 mm; ComponentLink1Description: Manufacturer Link; ComponentLink1URL: http://www.ti.com/; ComponentLink2Description: Datasheet; ComponentLink2URL: http://www-s.ti.com/sc/ds/sn74abt162245.pdf
footprint DGG048 (Shrink Small Outline; 48 Leads; Body Width 6.1 mm; Pitch 0.5 mm)
3D model DGG048 (Shrink Small Outline; 48 Leads; Body Width 6.1 mm; Pitch 0.5 mm)
signal-integrity model SN74ABT162245DGGR
pins: 1 1DIR (in), 2 1B1 (io), 3 1B2 (io), 4 GND (power), 5 1B3 (io), 6 1B4 (io), 7 VCC (power), 8 1B5 (io), 9 1B6 (io), 10 GND (power), 11 1B7 (io), 12 1B8 (io), 13 2B1 (io), 14 2B2 (io), 15 GND (power), 16 2B3 (io), 17 2B4 (io), 18 VCC (power), 19 2B5 (io), 20 2B6 (io), 21 GND (power), 22 2B7 (io), 23 2B8 (io), 24 2DIR (in), 25 2~{OE} (in), 26 2A8 (io), 27 2A7 (io), 28 GND (power), 29 2A6 (io), 30 2A5 (io), 31 VCC (power), 32 2A4 (io), 33 2A3 (io), 34 GND (power), 35 2A2 (io), 36 2A1 (io), 37 1A8 (io), 38 1A7 (io), 39 GND (power), 40 1A6 (io), 41 1A5 (io), 42 VCC (power), 43 1A4 (io), 44 1A3 (io), 45 GND (power), 46 1A2 (io), 47 1A1 (io), 48 1~{OE} (in)

## SN74ABT162245DL
designator U?
16-Bit Bus Transceiver with 3-State Outputs; Published: 8-Jun-2000; LatestRevisionDate: 04-Mar-2005; LatestRevisionNote: Stylized 3D Model Added.; DatasheetVersion: Apr-1999; PackageVersion: Dec-2001; PackageReference: DL048; Publisher: Altium Limited; PackageDescription: SSOP; 48 Leads; Body Width 7.5 mm; Pitch 0.635 mm; Code_JEDEC: MO-118-AA; Code_IPC: SSO48; ComponentLink1Description: Manufacturer Link; ComponentLink1URL: http://www.ti.com/; ComponentLink2Description: Datasheet; ComponentLink2URL: http://www-s.ti.com/sc/ds/sn74abt162245.pdf
footprint DL048 (SSOP; 48 Leads; Body Width 7.5 mm; Pitch 0.635 mm)
3D model DL048 (SSOP; 48 Leads; Body Width 7.5 mm; Pitch 0.635 mm)
signal-integrity model SN74ABT162245DL
pins: 1 1DIR (in), 2 1B1 (io), 3 1B2 (io), 4 GND (power), 5 1B3 (io), 6 1B4 (io), 7 VCC (power), 8 1B5 (io), 9 1B6 (io), 10 GND (power), 11 1B7 (io), 12 1B8 (io), 13 2B1 (io), 14 2B2 (io), 15 GND (power), 16 2B3 (io), 17 2B4 (io), 18 VCC (power), 19 2B5 (io), 20 2B6 (io), 21 GND (power), 22 2B7 (io), 23 2B8 (io), 24 2DIR (in), 25 2~{OE} (in), 26 2A8 (io), 27 2A7 (io), 28 GND (power), 29 2A6 (io), 30 2A5 (io), 31 VCC (power), 32 2A4 (io), 33 2A3 (io), 34 GND (power), 35 2A2 (io), 36 2A1 (io), 37 1A8 (io), 38 1A7 (io), 39 GND (power), 40 1A6 (io), 41 1A5 (io), 42 VCC (power), 43 1A4 (io), 44 1A3 (io), 45 GND (power), 46 1A2 (io), 47 1A1 (io), 48 1~{OE} (in)

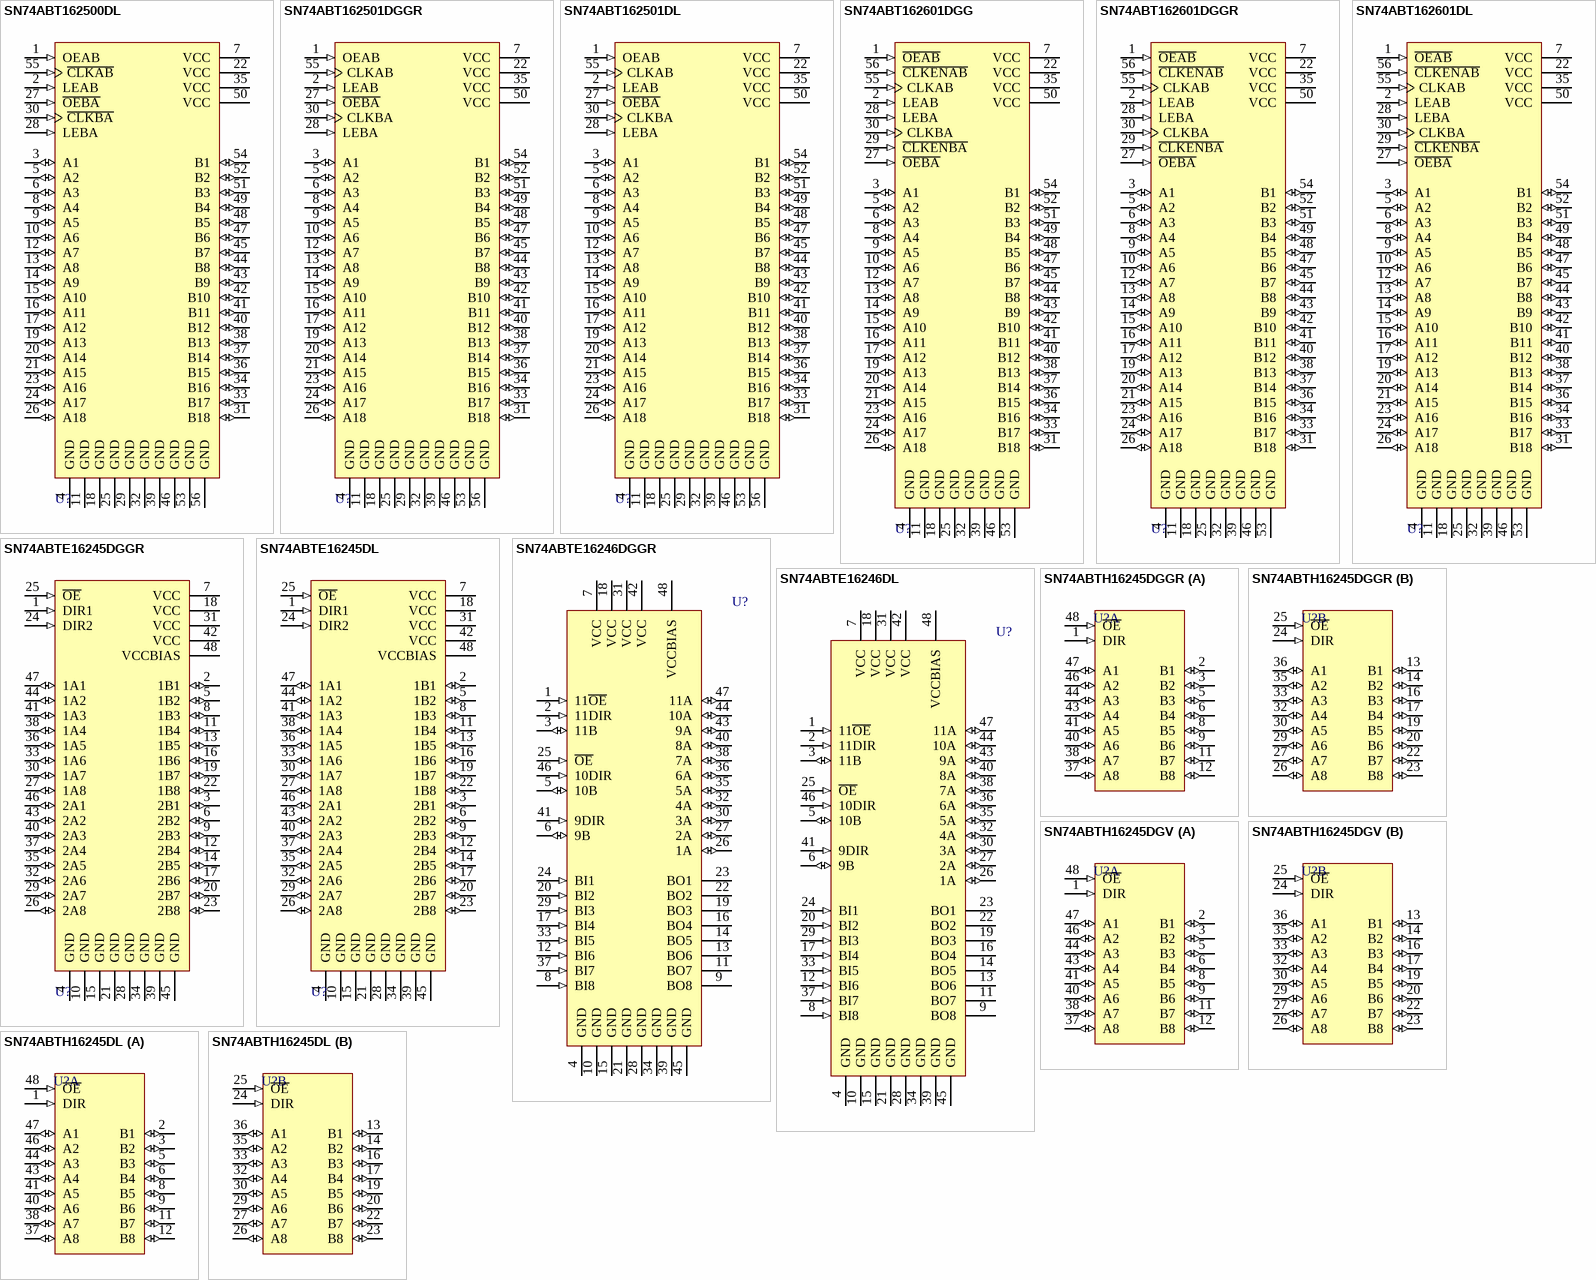
[diagram p13: symbols SN74ABT162500DL to SN74ABTH16245DL]

## SN74ABT162500DL
designator U?
18-Bit Universal Bus Transceiver with 3-State Outputs; Published: 8-Jun-2000; LatestRevisionDate: 04-Mar-2005; LatestRevisionNote: Stylized 3D Model Added.; DatasheetVersion: Feb-1999; PackageVersion: Dec-2001; PackageReference: DL056; Publisher: Altium Limited; PackageDescription: SSOP; 56 Leads; Body Width 7.5 mm; Pitch 0.635 mm; Code_JEDEC: MO-118-AB; Code_IPC: SSO56; ComponentLink1Description: Manufacturer Link; ComponentLink1URL: http://www.ti.com/; ComponentLink2Description: Datasheet; ComponentLink2URL: http://www-s.ti.com/sc/ds/sn74abt162500.pdf
footprint DL056 (SSOP; 56 Leads; Body Width 7.5 mm; Pitch 0.635 mm)
3D model DL056 (SSOP; 56 Leads; Body Width 7.5 mm; Pitch 0.635 mm)
signal-integrity model SN74ABT162500DL
pins: 1 OEAB (in), 2 LEAB (in), 3 A1 (io), 4 GND (power), 5 A2 (io), 6 A3 (io), 7 VCC (power), 8 A4 (io), 9 A5 (io), 10 A6 (io), 11 GND (power), 12 A7 (io), 13 A8 (io), 14 A9 (io), 15 A10 (io), 16 A11 (io), 17 A12 (io), 18 GND (power), 19 A13 (io), 20 A14 (io), 21 A15 (io), 22 VCC (power), 23 A16 (io), 24 A17 (io), 25 GND (power), 26 A18 (io), 27 ~{OEBA} (in), 28 LEBA (in), 29 GND (power), 30 ~{CLKBA} (in), 31 B18 (io), 32 GND (power), 33 B17 (io), 34 B16 (io), 35 VCC (power), 36 B15 (io), 37 B14 (io), 38 B13 (io), 39 GND (power), 40 B12 (io), 41 B11 (io), 42 B10 (io), 43 B9 (io), 44 B8 (io), 45 B7 (io), 46 GND (power), 47 B6 (io), 48 B5 (io), 49 B4 (io), 50 VCC (power), 51 B3 (io), 52 B2 (io), 53 GND (power), 54 B1 (io), 55 ~{CLKAB} (in), 56 GND (power)

## SN74ABT162501DGGR
designator U?
18-Bit Universal Bus Transceiver with 3-State Outputs; Published: 8-Jun-2000; LatestRevisionDate: 04-Mar-2005; LatestRevisionNote: Stylized 3D Model Added.; DatasheetVersion: Feb-1999; PackageVersion: Jan-1998; PackageReference: DGG056; Publisher: Altium Limited; PackageDescription: Shrink Small Outline; 56 Leads; Body Width 6.1 mm; Pitch 0.5 mm; ComponentLink1Description: Manufacturer Link; ComponentLink1URL: http://www.ti.com/; ComponentLink2Description: Datasheet; ComponentLink2URL: http://www-s.ti.com/sc/ds/sn74abt162501.pdf
footprint DGG056 (Shrink Small Outline; 56 Leads; Body Width 6.1 mm; Pitch 0.5 mm)
3D model DGG056 (Shrink Small Outline; 56 Leads; Body Width 6.1 mm; Pitch 0.5 mm)
signal-integrity model SN74ABT162501DGGR
pins: 1 OEAB (in), 2 LEAB (in), 3 A1 (io), 4 GND (power), 5 A2 (io), 6 A3 (io), 7 VCC (power), 8 A4 (io), 9 A5 (io), 10 A6 (io), 11 GND (power), 12 A7 (io), 13 A8 (io), 14 A9 (io), 15 A10 (io), 16 A11 (io), 17 A12 (io), 18 GND (power), 19 A13 (io), 20 A14 (io), 21 A15 (io), 22 VCC (power), 23 A16 (io), 24 A17 (io), 25 GND (power), 26 A18 (io), 27 ~{OEBA} (in), 28 LEBA (in), 29 GND (power), 30 CLKBA (in), 31 B18 (io), 32 GND (power), 33 B17 (io), 34 B16 (io), 35 VCC (power), 36 B15 (io), 37 B14 (io), 38 B13 (io), 39 GND (power), 40 B12 (io), 41 B11 (io), 42 B10 (io), 43 B9 (io), 44 B8 (io), 45 B7 (io), 46 GND (power), 47 B6 (io), 48 B5 (io), 49 B4 (io), 50 VCC (power), 51 B3 (io), 52 B2 (io), 53 GND (power), 54 B1 (io), 55 CLKAB (in), 56 GND (power)

## SN74ABT162501DL
designator U?
18-Bit Universal Bus Transceiver with 3-State Outputs; Published: 8-Jun-2000; LatestRevisionDate: 04-Mar-2005; LatestRevisionNote: Stylized 3D Model Added.; DatasheetVersion: Feb-1999; PackageVersion: Dec-2001; PackageReference: DL056; Publisher: Altium Limited; PackageDescription: SSOP; 56 Leads; Body Width 7.5 mm; Pitch 0.635 mm; Code_JEDEC: MO-118-AB; Code_IPC: SSO56; ComponentLink1Description: Manufacturer Link; ComponentLink1URL: http://www.ti.com/; ComponentLink2Description: Datasheet; ComponentLink2URL: http://www-s.ti.com/sc/ds/sn74abt162501.pdf
footprint DL056 (SSOP; 56 Leads; Body Width 7.5 mm; Pitch 0.635 mm)
3D model DL056 (SSOP; 56 Leads; Body Width 7.5 mm; Pitch 0.635 mm)
signal-integrity model SN74ABT162501DL
pins: 1 OEAB (in), 2 LEAB (in), 3 A1 (io), 4 GND (power), 5 A2 (io), 6 A3 (io), 7 VCC (power), 8 A4 (io), 9 A5 (io), 10 A6 (io), 11 GND (power), 12 A7 (io), 13 A8 (io), 14 A9 (io), 15 A10 (io), 16 A11 (io), 17 A12 (io), 18 GND (power), 19 A13 (io), 20 A14 (io), 21 A15 (io), 22 VCC (power), 23 A16 (io), 24 A17 (io), 25 GND (power), 26 A18 (io), 27 ~{OEBA} (in), 28 LEBA (in), 29 GND (power), 30 CLKBA (in), 31 B18 (io), 32 GND (power), 33 B17 (io), 34 B16 (io), 35 VCC (power), 36 B15 (io), 37 B14 (io), 38 B13 (io), 39 GND (power), 40 B12 (io), 41 B11 (io), 42 B10 (io), 43 B9 (io), 44 B8 (io), 45 B7 (io), 46 GND (power), 47 B6 (io), 48 B5 (io), 49 B4 (io), 50 VCC (power), 51 B3 (io), 52 B2 (io), 53 GND (power), 54 B1 (io), 55 CLKAB (in), 56 GND (power)

## SN74ABT162601DGG
designator U?
18-Bit Universal Bus Transceiver with 3-State Outputs; Published: 8-Jun-2000; LatestRevisionDate: 04-Mar-2005; LatestRevisionNote: Stylized 3D Model Added.; DatasheetVersion: Jul-1998; PackageVersion: Jan-1998; PackageReference: DGG056; Publisher: Altium Limited; PackageDescription: Shrink Small Outline; 56 Leads; Body Width 6.1 mm; Pitch 0.5 mm; ComponentLink1Description: Manufacturer Link; ComponentLink1URL: http://www.ti.com/; ComponentLink2Description: Datasheet; ComponentLink2URL: http://www-s.ti.com/sc/ds/sn74abt162601.pdf
footprint DGG056 (Shrink Small Outline; 56 Leads; Body Width 6.1 mm; Pitch 0.5 mm)
3D model DGG056 (Shrink Small Outline; 56 Leads; Body Width 6.1 mm; Pitch 0.5 mm)
signal-integrity model SN74ABT162601DGG
pins: 1 ~{OEAB} (in), 2 LEAB (in), 3 A1 (io), 4 GND (power), 5 A2 (io), 6 A3 (io), 7 VCC (power), 8 A4 (io), 9 A5 (io), 10 A6 (io), 11 GND (power), 12 A7 (io), 13 A8 (io), 14 A9 (io), 15 A10 (io), 16 A11 (io), 17 A12 (io), 18 GND (power), 19 A13 (io), 20 A14 (io), 21 A15 (io), 22 VCC (power), 23 A16 (io), 24 A17 (io), 25 GND (power), 26 A18 (io), 27 ~{OEBA} (in), 28 LEBA (in), 29 ~{CLKENBA} (in), 30 CLKBA (in), 31 B18 (io), 32 GND (power), 33 B17 (io), 34 B16 (io), 35 VCC (power), 36 B15 (io), 37 B14 (io), 38 B13 (io), 39 GND (power), 40 B12 (io), 41 B11 (io), 42 B10 (io), 43 B9 (io), 44 B8 (io), 45 B7 (io), 46 GND (power), 47 B6 (io), 48 B5 (io), 49 B4 (io), 50 VCC (power), 51 B3 (io), 52 B2 (io), 53 GND (power), 54 B1 (io), 55 CLKAB (in), 56 ~{CLKENAB} (in)

## SN74ABT162601DGGR
designator U?
18-Bit Universal Bus Transceiver with 3-State Outputs; Published: 8-Jun-2000; LatestRevisionDate: 04-Mar-2005; LatestRevisionNote: Stylized 3D Model Added.; DatasheetVersion: Jul-1998; PackageVersion: Jan-1998; PackageReference: DGG056; Publisher: Altium Limited; PackageDescription: Shrink Small Outline; 56 Leads; Body Width 6.1 mm; Pitch 0.5 mm; ComponentLink1Description: Manufacturer Link; ComponentLink1URL: http://www.ti.com/; ComponentLink2Description: Datasheet; ComponentLink2URL: http://www-s.ti.com/sc/ds/sn74abt162601.pdf
footprint DGG056 (Shrink Small Outline; 56 Leads; Body Width 6.1 mm; Pitch 0.5 mm)
3D model DGG056 (Shrink Small Outline; 56 Leads; Body Width 6.1 mm; Pitch 0.5 mm)
signal-integrity model SN74ABT162601DGGR
pins: 1 ~{OEAB} (in), 2 LEAB (in), 3 A1 (io), 4 GND (power), 5 A2 (io), 6 A3 (io), 7 VCC (power), 8 A4 (io), 9 A5 (io), 10 A6 (io), 11 GND (power), 12 A7 (io), 13 A8 (io), 14 A9 (io), 15 A10 (io), 16 A11 (io), 17 A12 (io), 18 GND (power), 19 A13 (io), 20 A14 (io), 21 A15 (io), 22 VCC (power), 23 A16 (io), 24 A17 (io), 25 GND (power), 26 A18 (io), 27 ~{OEBA} (in), 28 LEBA (in), 29 ~{CLKENBA} (in), 30 CLKBA (in), 31 B18 (io), 32 GND (power), 33 B17 (io), 34 B16 (io), 35 VCC (power), 36 B15 (io), 37 B14 (io), 38 B13 (io), 39 GND (power), 40 B12 (io), 41 B11 (io), 42 B10 (io), 43 B9 (io), 44 B8 (io), 45 B7 (io), 46 GND (power), 47 B6 (io), 48 B5 (io), 49 B4 (io), 50 VCC (power), 51 B3 (io), 52 B2 (io), 53 GND (power), 54 B1 (io), 55 CLKAB (in), 56 ~{CLKENAB} (in)

## SN74ABT162601DL
designator U?
18-Bit Universal Bus Transceiver with 3-State Outputs; Published: 8-Jun-2000; LatestRevisionDate: 04-Mar-2005; LatestRevisionNote: Stylized 3D Model Added.; DatasheetVersion: Jul-1998; PackageVersion: Dec-2001; PackageReference: DL056; Publisher: Altium Limited; PackageDescription: SSOP; 56 Leads; Body Width 7.5 mm; Pitch 0.635 mm; Code_JEDEC: MO-118-AB; Code_IPC: SSO56; ComponentLink1Description: Manufacturer Link; ComponentLink1URL: http://www.ti.com/; ComponentLink2Description: Datasheet; ComponentLink2URL: http://www-s.ti.com/sc/ds/sn74abt162601.pdf
footprint DL056 (SSOP; 56 Leads; Body Width 7.5 mm; Pitch 0.635 mm)
3D model DL056 (SSOP; 56 Leads; Body Width 7.5 mm; Pitch 0.635 mm)
signal-integrity model SN74ABT162601DL
pins: 1 ~{OEAB} (in), 2 LEAB (in), 3 A1 (io), 4 GND (power), 5 A2 (io), 6 A3 (io), 7 VCC (power), 8 A4 (io), 9 A5 (io), 10 A6 (io), 11 GND (power), 12 A7 (io), 13 A8 (io), 14 A9 (io), 15 A10 (io), 16 A11 (io), 17 A12 (io), 18 GND (power), 19 A13 (io), 20 A14 (io), 21 A15 (io), 22 VCC (power), 23 A16 (io), 24 A17 (io), 25 GND (power), 26 A18 (io), 27 ~{OEBA} (in), 28 LEBA (in), 29 ~{CLKENBA} (in), 30 CLKBA (in), 31 B18 (io), 32 GND (power), 33 B17 (io), 34 B16 (io), 35 VCC (power), 36 B15 (io), 37 B14 (io), 38 B13 (io), 39 GND (power), 40 B12 (io), 41 B11 (io), 42 B10 (io), 43 B9 (io), 44 B8 (io), 45 B7 (io), 46 GND (power), 47 B6 (io), 48 B5 (io), 49 B4 (io), 50 VCC (power), 51 B3 (io), 52 B2 (io), 53 GND (power), 54 B1 (io), 55 CLKAB (in), 56 ~{CLKENAB} (in)

## SN74ABTE16245DGGR
designator U?
16-Bit Incident-Wave Switching Bus Transceiver with 3-State Outputs; Published: 8-Jun-2000; LatestRevisionDate: 04-Mar-2005; LatestRevisionNote: Stylized 3D Model Added.; DatasheetVersion: Jun-1999; PackageVersion: Jan-1998; PackageReference: DGG048; Publisher: Altium Limited; PackageDescription: Shrink Small Outline; 48 Leads; Body Width 6.1 mm; Pitch 0.5 mm; ComponentLink1Description: Manufacturer Link; ComponentLink1URL: http://www.ti.com/; ComponentLink2Description: Datasheet; ComponentLink2URL: http://www-s.ti.com/sc/ds/sn74abte16245.pdf
footprint DGG048 (Shrink Small Outline; 48 Leads; Body Width 6.1 mm; Pitch 0.5 mm)
3D model DGG048 (Shrink Small Outline; 48 Leads; Body Width 6.1 mm; Pitch 0.5 mm)
pins: 1 DIR1 (in), 2 1B1 (io), 3 2B1 (io), 4 GND (power), 5 1B2 (io), 6 2B2 (io), 7 VCC (power), 8 1B3 (io), 9 2B3 (io), 10 GND (power), 11 1B4 (io), 12 2B4 (io), 13 1B5 (io), 14 2B5 (io), 15 GND (power), 16 1B6 (io), 17 2B6 (io), 18 VCC (power), 19 1B7 (io), 20 2B7 (io), 21 GND (power), 22 1B8 (io), 23 2B8 (io), 24 DIR2 (in), 25 ~{OE} (in), 26 2A8 (io), 27 1A8 (io), 28 GND (power), 29 2A7 (io), 30 1A7 (io), 31 VCC (power), 32 2A6 (io), 33 1A6 (io), 34 GND (power), 35 2A5 (io), 36 1A5 (io), 37 2A4 (io), 38 1A4 (io), 39 GND (power), 40 2A3 (io), 41 1A3 (io), 42 VCC (power), 43 2A2 (io), 44 1A2 (io), 45 GND (power), 46 2A1 (io), 47 1A1 (io), 48 VCCBIAS (power)

## SN74ABTE16245DL
designator U?
16-Bit Incident-Wave Switching Bus Transceiver with 3-State Outputs; Published: 8-Jun-2000; LatestRevisionDate: 04-Mar-2005; LatestRevisionNote: Stylized 3D Model Added.; DatasheetVersion: Jun-1999; PackageVersion: Dec-2001; PackageReference: DL048; Publisher: Altium Limited; PackageDescription: SSOP; 48 Leads; Body Width 7.5 mm; Pitch 0.635 mm; Code_JEDEC: MO-118-AA; Code_IPC: SSO48; ComponentLink1Description: Manufacturer Link; ComponentLink1URL: http://www.ti.com/; ComponentLink2Description: Datasheet; ComponentLink2URL: http://www-s.ti.com/sc/ds/sn74abte16245.pdf
footprint DL048 (SSOP; 48 Leads; Body Width 7.5 mm; Pitch 0.635 mm)
3D model DL048 (SSOP; 48 Leads; Body Width 7.5 mm; Pitch 0.635 mm)
pins: 1 DIR1 (in), 2 1B1 (io), 3 2B1 (io), 4 GND (power), 5 1B2 (io), 6 2B2 (io), 7 VCC (power), 8 1B3 (io), 9 2B3 (io), 10 GND (power), 11 1B4 (io), 12 2B4 (io), 13 1B5 (io), 14 2B5 (io), 15 GND (power), 16 1B6 (io), 17 2B6 (io), 18 VCC (power), 19 1B7 (io), 20 2B7 (io), 21 GND (power), 22 1B8 (io), 23 2B8 (io), 24 DIR2 (in), 25 ~{OE} (in), 26 2A8 (io), 27 1A8 (io), 28 GND (power), 29 2A7 (io), 30 1A7 (io), 31 VCC (power), 32 2A6 (io), 33 1A6 (io), 34 GND (power), 35 2A5 (io), 36 1A5 (io), 37 2A4 (io), 38 1A4 (io), 39 GND (power), 40 2A3 (io), 41 1A3 (io), 42 VCC (power), 43 2A2 (io), 44 1A2 (io), 45 GND (power), 46 2A1 (io), 47 1A1 (io), 48 VCCBIAS (power)

## SN74ABTE16246DGGR
designator U?
11-Bit Incident-Wave Switching Bus Transceiver with 3-State and Open-Collector Outputs; Published: 8-Jun-2000; LatestRevisionDate: 04-Mar-2005; LatestRevisionNote: Stylized 3D Model Added.; DatasheetVersion: Jun-1999; PackageVersion: Jan-1998; PackageReference: DGG048; Publisher: Altium Limited; PackageDescription: Shrink Small Outline; 48 Leads; Body Width 6.1 mm; Pitch 0.5 mm; ComponentLink1Description: Manufacturer Link; ComponentLink1URL: http://www.ti.com/; ComponentLink2Description: Datasheet; ComponentLink2URL: http://www-s.ti.com/sc/ds/sn74abte16246.pdf
footprint DGG048 (Shrink Small Outline; 48 Leads; Body Width 6.1 mm; Pitch 0.5 mm)
3D model DGG048 (Shrink Small Outline; 48 Leads; Body Width 6.1 mm; Pitch 0.5 mm)
pins: 1 11~{OE} (in), 2 11DIR (in), 3 11B (io), 4 GND (power), 5 10B (io), 6 9B (io), 7 VCC (power), 8 BI8 (in), 9 BO8 (hiz), 10 GND (power), 11 BO7 (hiz), 12 BI6 (in), 13 BO6 (hiz), 14 BO5 (hiz), 15 GND (power), 16 BO4 (hiz), 17 BI4 (in), 18 VCC (power), 19 BO3 (hiz), 20 BI2 (in), 21 GND (power), 22 BO2 (hiz), 23 BO1 (hiz), 24 BI1 (in), 25 ~{OE} (in), 26 1A (io), 27 2A (io), 28 GND (power), 29 BI3 (in), 30 3A (io), 31 VCC (power), 32 4A (io), 33 BI5 (in), 34 GND (power), 35 5A (io), 36 6A (io), 37 BI7 (in), 38 7A (io), 39 GND (power), 40 8A (io), 41 9DIR (in), 42 VCC (power), 43 9A (io), 44 10A (io), 45 GND (power), 46 10DIR (in), 47 11A (io), 48 VCCBIAS (power)

## SN74ABTE16246DL
designator U?
11-Bit Incident-Wave Switching Bus Transceiver with 3-State and Open-Collector Outputs; Published: 8-Jun-2000; LatestRevisionDate: 04-Mar-2005; LatestRevisionNote: Stylized 3D Model Added.; DatasheetVersion: Jun-1999; PackageVersion: Dec-2001; PackageReference: DL048; Publisher: Altium Limited; PackageDescription: SSOP; 48 Leads; Body Width 7.5 mm; Pitch 0.635 mm; Code_JEDEC: MO-118-AA; Code_IPC: SSO48; ComponentLink1Description: Manufacturer Link; ComponentLink1URL: http://www.ti.com/; ComponentLink2Description: Datasheet; ComponentLink2URL: http://www-s.ti.com/sc/ds/sn74abte16246.pdf
footprint DL048 (SSOP; 48 Leads; Body Width 7.5 mm; Pitch 0.635 mm)
3D model DL048 (SSOP; 48 Leads; Body Width 7.5 mm; Pitch 0.635 mm)
pins: 1 11~{OE} (in), 2 11DIR (in), 3 11B (io), 4 GND (power), 5 10B (io), 6 9B (io), 7 VCC (power), 8 BI8 (in), 9 BO8 (hiz), 10 GND (power), 11 BO7 (hiz), 12 BI6 (in), 13 BO6 (hiz), 14 BO5 (hiz), 15 GND (power), 16 BO4 (hiz), 17 BI4 (in), 18 VCC (power), 19 BO3 (hiz), 20 BI2 (in), 21 GND (power), 22 BO2 (hiz), 23 BO1 (hiz), 24 BI1 (in), 25 ~{OE} (in), 26 1A (io), 27 2A (io), 28 GND (power), 29 BI3 (in), 30 3A (io), 31 VCC (power), 32 4A (io), 33 BI5 (in), 34 GND (power), 35 5A (io), 36 6A (io), 37 BI7 (in), 38 7A (io), 39 GND (power), 40 8A (io), 41 9DIR (in), 42 VCC (power), 43 9A (io), 44 10A (io), 45 GND (power), 46 10DIR (in), 47 11A (io), 48 VCCBIAS (power)

## SN74ABTH16245DGGR
designator U?
16-Bit Bus Transceiver with 3-State Outputs; Published: 8-Jun-2000; LatestRevisionDate: 04-Mar-2005; LatestRevisionNote: Stylized 3D Model Added.; DatasheetVersion: Mar-1999; PackageVersion: Jan-1998; PackageReference: DGG048; Publisher: Altium Limited; PackageDescription: Shrink Small Outline; 48 Leads; Body Width 6.1 mm; Pitch 0.5 mm; ComponentLink1Description: Manufacturer Link; ComponentLink1URL: http://www.ti.com/; ComponentLink2Description: Datasheet; ComponentLink2URL: http://www-s.ti.com/sc/ds/sn74abth16245.pdf
footprint DGG048 (Shrink Small Outline; 48 Leads; Body Width 6.1 mm; Pitch 0.5 mm)
3D model DGG048 (Shrink Small Outline; 48 Leads; Body Width 6.1 mm; Pitch 0.5 mm)
pins on every part: 4 GND (power) hidden to GND, 7 VCC (power) hidden to VCC, 10 GND (power) hidden to GND, 15 GND (power) hidden to GND, 18 VCC (power) hidden to VCC, 21 GND (power) hidden to GND, 28 GND (power) hidden to GND, 31 VCC (power) hidden to VCC, 34 GND (power) hidden to GND, 39 GND (power) hidden to GND, 42 VCC (power) hidden to VCC, 45 GND (power) hidden to GND
part A pins: 1 DIR (in), 2 B1 (io), 3 B2 (io), 5 B3 (io), 6 B4 (io), 8 B5 (io), 9 B6 (io), 11 B7 (io), 12 B8 (io), 37 A8 (io), 38 A7 (io), 40 A6 (io), 41 A5 (io), 43 A4 (io), 44 A3 (io), 46 A2 (io), 47 A1 (io), 48 ~{OE} (in)
part B pins: 13 B1 (io), 14 B2 (io), 16 B3 (io), 17 B4 (io), 19 B5 (io), 20 B6 (io), 22 B7 (io), 23 B8 (io), 24 DIR (in), 25 ~{OE} (in), 26 A8 (io), 27 A7 (io), 29 A6 (io), 30 A5 (io), 32 A4 (io), 33 A3 (io), 35 A2 (io), 36 A1 (io)